# Altium footprint library EISI.PcbLib: 695 footprints (part 4 of 44)
Each footprint in its own frame and in the unit in brackets; x right, y up, seen from the top. Pads: shape width x height; smd on the part's side, far side on the other; paste and mask are expansions set on the pad; w line width, h text height; cw(c..) or ccw(c..) is an arc to the next point about the centre after c.
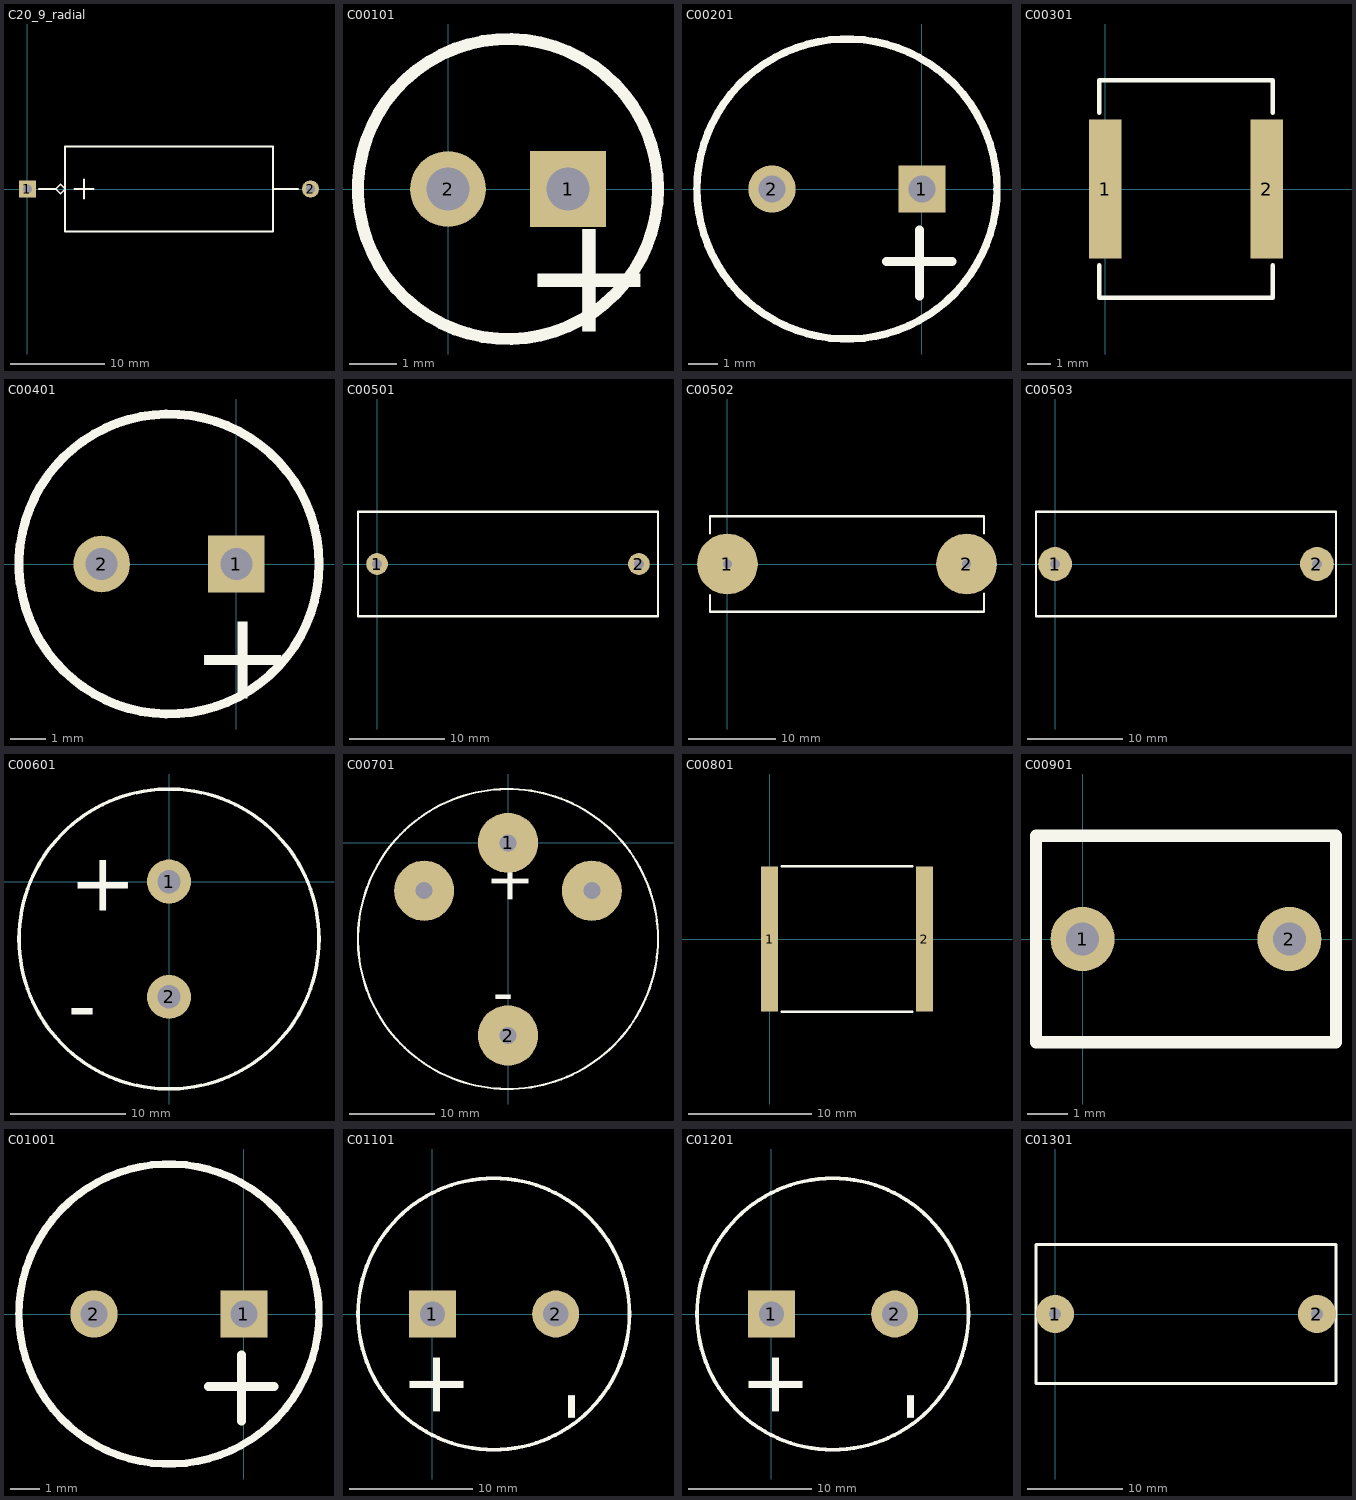
[diagram p3: the footprints below, top view; thin cyan lines are the x and y axes]

## C20_9_radial [mm]
pads (2):
  rect 1.8x1.8 hole 1: 1(0,0)
  round 1.8 hole 1: 2(30,0)
TopOverlay:
  lines w0.2: 1.2,0 3,0 ; 5,0 7,0 ; 6,-1 6,1 ; 26.025,0 28.7,0 ; 3,0 3.5,0.5 ; 3,0 3,0 ; 3,0 3.5,-0.5 3.975,-0.025 3.975,0 ; 3.5,0.5 3.975,0.025 3.975,0 ; 3.5,0.5 3.5,0.5 ; 3.975,0 3.975,4.5 26.025,4.5 26.025,-4.5 3.975,-4.5 3.975,0

## C00101 [mm]
pads (2):
  rect 1.6x1.6 hole 0.9: 1(2.54,0)
  round 1.6 hole 0.9: 2(0,0)
TopOverlay:
  circle w0.254: c1.27,0 r3.175
  text "+" at 1.524,-3.023 h2.54

## C00201 [mm]
pads (2):
  rect 1.6x1.6 hole 0.9: 1(0,0)
  round 1.6 hole 0.9: 2(-5.08,0)
TopOverlay:
  circle w0.254: c-2.54,0 r5.08
  lines w0.305: -1.194,-2.464 1.016,-2.464 ; -0.076,-3.632 -0.076,-1.397

## C00301 [mil]
pads (2):
  rect 55x236 smd: 1(0,0) 2(275,0)
TopOverlay:
  lines w7.87: -10,-130 -10,-185 285,-185 285,-130 ; -10,130 -10,185 285,185 285,130

## C00401 [mm]
pads (2):
  rect 1.6x1.6 hole 0.9: 1(0,0)
  round 1.6 hole 0.9: 2(-3.81,0)
TopOverlay:
  circle w0.254: c-1.905,0 r4.242
  text "+" at -1.27,-3.81 h2.54

## C00501 [mil]
pads (2):
  round 90 hole 40: 1(0,0) 2(1082.68,0)
TopOverlay:
  lines w10: -78.74,-216.54 -78.74,216.54 1000,216.54 1161.42,216.54 1161.42,-216.54 1000,-216.54 -78.74,-216.54

## C00502 [mil]
pads (2):
  round 275 hole 40: 1(0,0) 2(1082.68,0)
TopOverlay:
  lines w10: -78.74,-141.73 -78.74,-216.54 1000,-216.54 1161.42,-216.54 1161.42,-133.86 ; -78.74,137.8 -78.74,216.54 1000,216.54 1161.42,216.54 1161.42,137.8

## C00503 [mil]
pads (2):
  round 140 hole 40: 1(0,0) 2(1082.68,0)
TopOverlay:
  lines w10: -78.74,-216.54 -78.74,216.54 1000,216.54 1161.42,216.54 1161.42,-216.54 1000,-216.54 -78.74,-216.54

## C00601 [mil]
pads (2):
  round 150 hole 80: 1(0,0) 2(0,-393.7)
TopOverlay:
  circle w12: c0,-196.06 r511.81
  text "-" at -345,-520 h200
  text "+" at -340,-100 h200

## C00701 [mil]
pads (4):
  round 276 hole 78: 1(0,0) 2(0,-885) ""(-385,-220) ""(385,-220)
TopOverlay:
  circle w10: c0,-441.69 r688.98
  text "+" at 95,-290 h196.85
  text "-" at -70,-780 h196.85

## C00801 [mm]
pads (2):
  rect 1.35x11.8 smd: 1(0,0) 2(12.6,0)
TopOverlay:
  lines w0.2: 1,-5.9 11.6,-5.9 ; 1,5.9 11.6,5.9

## C00901 [mil]
pads (2):
  round 62 hole 32: 1(0,0) 2(200,0)
TopOverlay:
  lines w12: -45,-100 -45,-75 -45,75 -45,100 245,100 245,75 245,-75 245,-100 -45,-100

## C01001 [mm]
pads (2):
  rect 1.6x1.6 hole 0.9: 1(0,0)
  round 1.6 hole 0.9: 2(-5.08,0)
TopOverlay:
  circle w0.254: c-2.54,0 r5.08
  lines w0.305: -1.194,-2.464 1.016,-2.464 ; -0.076,-3.632 -0.076,-1.397

## C01101 [mil]
pads (2):
  rect 150x150 hole 80: 1(0,0)
  round 150 hole 80: 2(393.7,0)
TopOverlay:
  circle w12: c196.06,0 r433.07
  text "+" at 100,-340 h200
  text "-" at 520,-345 h200

## C01201 [mil]
pads (2):
  rect 150x150 hole 80: 1(0,0)
  round 150 hole 80: 2(393.7,0)
TopOverlay:
  circle w12: c196.06,0 r433.07
  text "+" at 100,-340 h200
  text "-" at 520,-345 h200

## C01301 [mm]
pads (2):
  round 4 hole 1.3: 1(0,0) 2(27.5,0)
TopOverlay:
  lines w0.305: -2,-7.3 -2,7.3 29.5,7.3 29.5,-7.3 -2,-7.3